# EAGLE library part RELAY-4C (library MyLibrary)
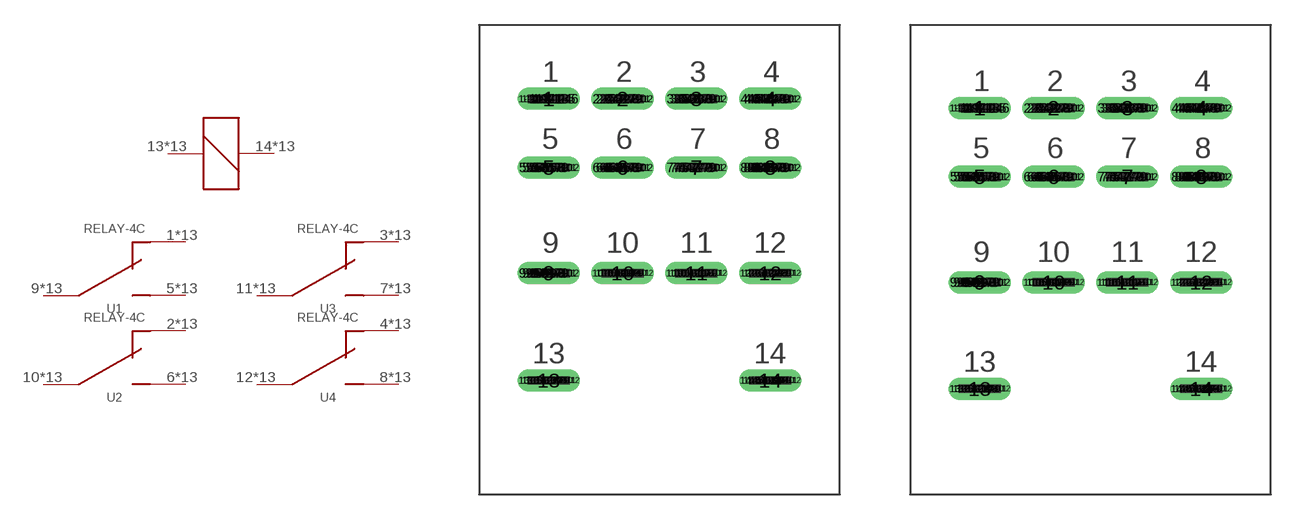
[diagram p28: symbol with the pads of HJ4; footprints HJ4, MY4]

Designator prefix -; gates C=COIL-RELAY 1=SWITCH-C 2=SWITCH-C 3=SWITCH-C 4=SWITCH-C

## RELAY-4CHJ4  [HJ4]
1  1:NC
1-1  1:NC
1-2  1:NC
1-3  1:NC
1-4  1:NC
1-5  1:NC
1-6  1:NC
1-7  1:NC
1-8  1:NC
1-9  1:NC
1-10  1:NC
1-11  1:NC
1-12  1:NC
2  2:NC
2-1  2:NC
2-2  2:NC
2-3  2:NC
2-4  2:NC
2-5  2:NC
2-6  2:NC
2-7  2:NC
2-8  2:NC
2-9  2:NC
2-10  2:NC
2-11  2:NC
2-12  2:NC
3  3:NC
3-1  3:NC
3-2  3:NC
3-3  3:NC
3-4  3:NC
3-5  3:NC
3-6  3:NC
3-7  3:NC
3-8  3:NC
3-9  3:NC
3-10  3:NC
3-11  3:NC
3-12  3:NC
4  4:NC
4-1  4:NC
4-2  4:NC
4-3  4:NC
4-4  4:NC
4-5  4:NC
4-6  4:NC
4-7  4:NC
4-8  4:NC
4-9  4:NC
4-10  4:NC
4-11  4:NC
4-12  4:NC
5  1:NO
5-1  1:NO
5-2  1:NO
5-3  1:NO
5-4  1:NO
5-5  1:NO
5-6  1:NO
5-7  1:NO
5-8  1:NO
5-9  1:NO
5-10  1:NO
5-11  1:NO
5-12  1:NO
6  2:NO
6-1  2:NO
6-2  2:NO
6-3  2:NO
6-4  2:NO
6-5  2:NO
6-6  2:NO
6-7  2:NO
6-8  2:NO
6-9  2:NO
6-10  2:NO
6-11  2:NO
6-12  2:NO
7  3:NO
7-1  3:NO
7-2  3:NO
7-3  3:NO
7-4  3:NO
7-5  3:NO
7-6  3:NO
7-7  3:NO
7-8  3:NO
7-9  3:NO
7-10  3:NO
7-11  3:NO
7-12  3:NO
8  4:NO
8-1  4:NO
8-2  4:NO
8-3  4:NO
8-4  4:NO
8-5  4:NO
8-6  4:NO
8-7  4:NO
8-8  4:NO
8-9  4:NO
8-10  4:NO
8-11  4:NO
8-12  4:NO
9  1:COM
9-1  1:COM
9-2  1:COM
9-3  1:COM
9-4  1:COM
9-5  1:COM
9-6  1:COM
9-7  1:COM
9-8  1:COM
9-9  1:COM
9-10  1:COM
9-11  1:COM
9-12  1:COM
10  2:COM
10-1  2:COM
10-2  2:COM
10-3  2:COM
10-4  2:COM
10-5  2:COM
10-6  2:COM
10-7  2:COM
10-8  2:COM
10-9  2:COM
10-10  2:COM
10-11  2:COM
10-12  2:COM
11  3:COM
11-1  3:COM
11-2  3:COM
11-3  3:COM
11-4  3:COM
11-5  3:COM
11-6  3:COM
11-7  3:COM
11-8  3:COM
11-9  3:COM
11-10  3:COM
11-11  3:COM
11-12  3:COM
12  4:COM
12-1  4:COM
12-2  4:COM
12-3  4:COM
12-4  4:COM
12-5  4:COM
12-6  4:COM
12-7  4:COM
12-8  4:COM
12-9  4:COM
12-10  4:COM
12-11  4:COM
12-12  4:COM
13  C:P$1
13-1  C:P$1
13-2  C:P$1
13-3  C:P$1
13-4  C:P$1
13-5  C:P$1
13-6  C:P$1
13-7  C:P$1
13-8  C:P$1
13-9  C:P$1
13-10  C:P$1
13-11  C:P$1
13-12  C:P$1
14  C:P$2
14-1  C:P$2
14-2  C:P$2
14-3  C:P$2
14-4  C:P$2
14-5  C:P$2
14-6  C:P$2
14-7  C:P$2
14-8  C:P$2
14-9  C:P$2
14-10  C:P$2
14-11  C:P$2
14-12  C:P$2

## RELAY-4CMY4  [MY4]
Pads as for HJ4

## Footprint HJ4 (pad centres in mm)
drill 0.8: 1 -6.6,16.8; 1-1 -6.4,16.8; 1-2 -6.2,16.8; 1-3 -6,16.8; 1-4 -5.8,16.8; 1-5 -5.6,16.8; 1-6 -5.4,16.8; 1-7 -6.8,16.8; 1-8 -7,16.8; 1-9 -7.2,16.8; 1-10 -7.4,16.8; 1-11 -7.6,16.8; 1-12 -7.8,16.8; 2 -2.2,16.8; 2-1 -2.4,16.8; 2-2 -2.6,16.8; 2-3 -2.8,16.8; 2-4 -3,16.8; 2-5 -3.2,16.8; 2-6 -3.4,16.8; 2-7 -2,16.8; 2-8 -1.8,16.8; 2-9 -1.6,16.8; 2-10 -1.4,16.8; 2-11 -1.2,16.8; 2-12 -1,16.8; 3 2.2,16.8; 3-1 2,16.8; 3-2 1.8,16.8; 3-3 1.6,16.8; 3-4 1.4,16.8; 3-5 1.2,16.8; 3-6 1,16.8; 3-7 2.4,16.8; 3-8 2.6,16.8; 3-9 2.8,16.8; 3-10 3,16.8; 3-11 3.2,16.8; 3-12 3.4,16.8; 4 6.6,16.8; 4-1 6.4,16.8; 4-2 6.2,16.8; 4-3 6,16.8; 4-4 5.8,16.8; 4-5 5.6,16.8; 4-6 5.4,16.8; 4-7 6.8,16.8; 4-8 7,16.8; 4-9 7.2,16.8; 4-10 7.4,16.8; 4-11 7.6,16.8; 4-12 7.8,16.8; 5 -6.6,12.7; 5-1 -6.8,12.7; 5-2 -7,12.7; 5-3 -7.2,12.7; 5-4 -7.4,12.7; 5-5 -7.6,12.7; 5-6 -7.8,12.7; 5-7 -6.4,12.7; 5-8 -6.2,12.7; 5-9 -6,12.7; 5-10 -5.8,12.7; 5-11 -5.6,12.7; 5-12 -5.4,12.7; 6 -2.2,12.7; 6-1 -2.4,12.7; 6-2 -2.6,12.7; 6-3 -2.8,12.7; 6-4 -3,12.7; 6-5 -3.2,12.7; 6-6 -3.4,12.7; 6-7 -2,12.7; 6-8 -1.8,12.7; 6-9 -1.6,12.7; 6-10 -1.4,12.7; 6-11 -1.2,12.7; 6-12 -1,12.7; 7 2.2,12.7; 7-1 2,12.7; 7-2 1.8,12.7; 7-3 1.6,12.7; 7-4 1.4,12.7; 7-5 1.2,12.7; 7-6 1,12.7; 7-7 2.4,12.7; 7-8 2.6,12.7; 7-9 2.8,12.7; 7-10 3,12.7; 7-11 3.2,12.7; 7-12 3.4,12.7; 8 6.6,12.7; 8-1 6.4,12.7; 8-2 6.2,12.7; 8-3 6,12.7; 8-4 5.8,12.7; 8-5 5.6,12.7; 8-6 5.4,12.7; 8-7 6.8,12.7; 8-8 7,12.7; 8-9 7.2,12.7; 8-10 7.4,12.7; 8-11 7.6,12.7; 8-12 7.8,12.7; 9 -6.6,6.4; 9-1 -6.8,6.4; 9-2 -7,6.4; 9-3 -7.2,6.4; 9-4 -7.4,6.4; 9-5 -7.6,6.4; 9-6 -7.8,6.4; 9-7 -6.4,6.4; 9-8 -6.2,6.4; 9-9 -6,6.4; 9-10 -5.8,6.4; 9-11 -5.6,6.4; 9-12 -5.4,6.4; 10 -2.2,6.4; 10-1 -2.4,6.4; 10-2 -2.6,6.4; 10-3 -2.8,6.4; 10-4 -3,6.4; 10-5 -3.2,6.4; 10-6 -3.4,6.4; 10-7 -2,6.4; 10-8 -1.8,6.4; 10-9 -1.6,6.4; 10-10 -1.4,6.4; 10-11 -1.2,6.4; 10-12 -1,6.4; 11 2.2,6.4; 11-1 2,6.4; 11-2 1.8,6.4; 11-3 1.6,6.4; 11-4 1.4,6.4; 11-5 1.2,6.4; 11-6 1,6.4; 11-7 2.4,6.4; 11-8 2.6,6.4; 11-9 2.8,6.4; 11-10 3,6.4; 11-11 3.2,6.4; 11-12 3.4,6.4; 12 6.6,6.4; 12-1 6.4,6.4; 12-2 6.2,6.4; 12-3 6,6.4; 12-4 5.8,6.4; 12-5 5.6,6.4; 12-6 5.4,6.4; 12-7 6.8,6.4; 12-8 7,6.4; 12-9 7.2,6.4; 12-10 7.4,6.4; 12-11 7.6,6.4; 12-12 7.8,6.4; 13 -6.6,0; 13-1 -6.8,0; 13-2 -7,0; 13-3 -7.2,0; 13-4 -7.4,0; 13-5 -7.6,0; 13-6 -7.8,0; 13-7 -6.4,0; 13-8 -6.2,0; 13-9 -6,0; 13-10 -5.8,0; 13-11 -5.6,0; 13-12 -5.4,0; 14 6.6,0; 14-1 6.4,0; 14-2 6.2,0; 14-3 6,0; 14-4 5.8,0; 14-5 5.6,0; 14-6 5.4,0; 14-7 6.8,0; 14-8 7,0; 14-9 7.2,0; 14-10 7.4,0; 14-11 7.6,0; 14-12 7.8,0

## Footprint MY4 (pad centres in mm)
drill 0.8: 1 -6.6,16.75; 1-1 -6.4,16.75; 1-2 -6.2,16.75; 1-3 -6,16.75; 1-4 -5.8,16.75; 1-5 -5.6,16.75; 1-6 -5.4,16.75; 1-7 -6.8,16.75; 1-8 -7,16.75; 1-9 -7.2,16.75; 1-10 -7.4,16.75; 1-11 -7.6,16.75; 1-12 -7.8,16.75; 2 -2.2,16.75; 2-1 -2.4,16.75; 2-2 -2.6,16.75; 2-3 -2.8,16.75; 2-4 -3,16.75; 2-5 -3.2,16.75; 2-6 -3.4,16.75; 2-7 -2,16.75; 2-8 -1.8,16.75; 2-9 -1.6,16.75; 2-10 -1.4,16.75; 2-11 -1.2,16.75; 2-12 -1,16.75; 3 2.2,16.75; 3-1 2,16.75; 3-2 1.8,16.75; 3-3 1.6,16.75; 3-4 1.4,16.75; 3-5 1.2,16.75; 3-6 1,16.75; 3-7 2.4,16.75; 3-8 2.6,16.75; 3-9 2.8,16.75; 3-10 3,16.75; 3-11 3.2,16.75; 3-12 3.4,16.75; 4 6.6,16.75; 4-1 6.4,16.75; 4-2 6.2,16.75; 4-3 6,16.75; 4-4 5.8,16.75; 4-5 5.6,16.75; 4-6 5.4,16.75; 4-7 6.8,16.75; 4-8 7,16.75; 4-9 7.2,16.75; 4-10 7.4,16.75; 4-11 7.6,16.75; 4-12 7.8,16.75; 5 -6.6,12.65; 5-1 -6.8,12.65; 5-2 -7,12.65; 5-3 -7.2,12.65; 5-4 -7.4,12.65; 5-5 -7.6,12.65; 5-6 -7.8,12.65; 5-7 -6.4,12.65; 5-8 -6.2,12.65; 5-9 -6,12.65; 5-10 -5.8,12.65; 5-11 -5.6,12.65; 5-12 -5.4,12.65; 6 -2.2,12.65; 6-1 -2.4,12.65; 6-2 -2.6,12.65; 6-3 -2.8,12.65; 6-4 -3,12.65; 6-5 -3.2,12.65; 6-6 -3.4,12.65; 6-7 -2,12.65; 6-8 -1.8,12.65; 6-9 -1.6,12.65; 6-10 -1.4,12.65; 6-11 -1.2,12.65; 6-12 -1,12.65; 7 2.2,12.65; 7-1 2,12.65; 7-2 1.8,12.65; 7-3 1.6,12.65; 7-4 1.4,12.65; 7-5 1.2,12.65; 7-6 1,12.65; 7-7 2.4,12.65; 7-8 2.6,12.65; 7-9 2.8,12.65; 7-10 3,12.65; 7-11 3.2,12.65; 7-12 3.4,12.65; 8 6.6,12.65; 8-1 6.4,12.65; 8-2 6.2,12.65; 8-3 6,12.65; 8-4 5.8,12.65; 8-5 5.6,12.65; 8-6 5.4,12.65; 8-7 6.8,12.65; 8-8 7,12.65; 8-9 7.2,12.65; 8-10 7.4,12.65; 8-11 7.6,12.65; 8-12 7.8,12.65; 9 -6.6,6.35; 9-1 -6.8,6.35; 9-2 -7,6.35; 9-3 -7.2,6.35; 9-4 -7.4,6.35; 9-5 -7.6,6.35; 9-6 -7.8,6.35; 9-7 -6.4,6.35; 9-8 -6.2,6.35; 9-9 -6,6.35; 9-10 -5.8,6.35; 9-11 -5.6,6.35; 9-12 -5.4,6.35; 10 -2.2,6.35; 10-1 -2.4,6.35; 10-2 -2.6,6.35; 10-3 -2.8,6.35; 10-4 -3,6.35; 10-5 -3.2,6.35; 10-6 -3.4,6.35; 10-7 -2,6.35; 10-8 -1.8,6.35; 10-9 -1.6,6.35; 10-10 -1.4,6.35; 10-11 -1.2,6.35; 10-12 -1,6.35; 11 2.2,6.35; 11-1 2,6.35; 11-2 1.8,6.35; 11-3 1.6,6.35; 11-4 1.4,6.35; 11-5 1.2,6.35; 11-6 1,6.35; 11-7 2.4,6.35; 11-8 2.6,6.35; 11-9 2.8,6.35; 11-10 3,6.35; 11-11 3.2,6.35; 11-12 3.4,6.35; 12 6.6,6.35; 12-1 6.4,6.35; 12-2 6.2,6.35; 12-3 6,6.35; 12-4 5.8,6.35; 12-5 5.6,6.35; 12-6 5.4,6.35; 12-7 6.8,6.35; 12-8 7,6.35; 12-9 7.2,6.35; 12-10 7.4,6.35; 12-11 7.6,6.35; 12-12 7.8,6.35; 13 -6.6,0; 13-1 -6.8,0; 13-2 -7,0; 13-3 -7.2,0; 13-4 -7.4,0; 13-5 -7.6,0; 13-6 -7.8,0; 13-7 -6.4,0; 13-8 -6.2,0; 13-9 -6,0; 13-10 -5.8,0; 13-11 -5.6,0; 13-12 -5.4,0; 14 6.6,0; 14-1 6.4,0; 14-2 6.2,0; 14-3 6,0; 14-4 5.8,0; 14-5 5.6,0; 14-6 5.4,0; 14-7 6.8,0; 14-8 7,0; 14-9 7.2,0; 14-10 7.4,0; 14-11 7.6,0; 14-12 7.8,0